# Altium footprint library Switch_TE_1825910-2_eec_0.PcbLib: 1 footprints
Each footprint in its own frame and in the unit in brackets; x right, y up, seen from the top. Pads: shape width x height; smd on the part's side, far side on the other; paste and mask are expansions set on the pad; w line width, h text height; cw(c..) or ccw(c..) is an arc to the next point about the centre after c.
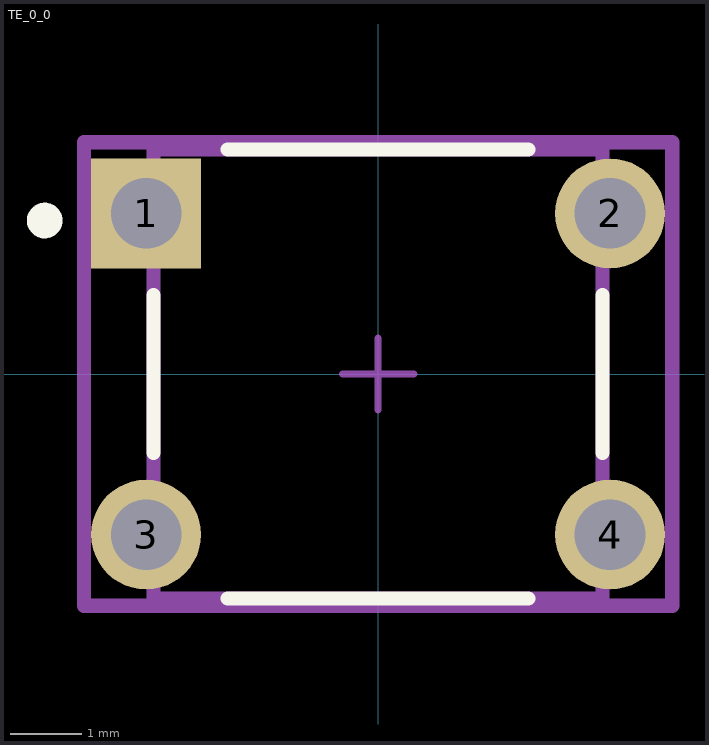
[diagram p0: the footprint, top view; thin cyan lines are the x and y axes]

## TE_0_0 [mm]
pads (4):
  rect 1.54x1.54 hole 0.99 paste-1000 mask+0: 1(-3.25,2.25)
  round 1.54 hole 0.99 paste-1000 mask+0: 2(3.25,2.25) 3(-3.25,-2.25) 4(3.25,-2.25)
Top Overlay:
  circle w0.25: c-4.67,2.15 r0.125
  lines w0.2: -3.145,-1.105 -3.145,1.105 ; -2.105,-3.145 2.105,-3.145 ; -2.105,3.145 2.105,3.145 ; 3.145,-1.105 3.145,1.105
Mechanical 10:
  lines w0.2: -4.12,-3.245 4.12,-3.245 4.12,3.245 -4.12,3.245 -4.12,-3.245
  text ".Designator" at 0,0 h1
Mechanical 12:
  lines w0.2: -3.145,-3.145 3.145,-3.145 3.145,3.145 -3.145,3.145 -3.145,-3.145
Mechanical 15:
  lines w0.1: -0.5,0 0.5,0 ; 0,-0.5 0,0.5
  lines w0.2: -4.12,-3.245 4.12,-3.245 4.12,3.245 -4.12,3.245 -4.12,-3.245
3D body "Switch_TE_1825910-2_eec.STEP": height 0.25, standoff 0, extent -4.12,-3.245 4.12,3.245